# Altium schematic symbol library XRA1203IG24TR-F.SchLib: 1 symbol
Pins are listed as number, name and electrical type; pins without a type are passive.

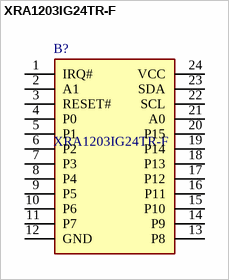
[diagram p0: symbol XRA1203IG24TR-F]

## XRA1203IG24TR-F
designator B?
Interface - I/O Expanders 16 Bit I2C GPIO Expander; Manufacturer_Name: EXAR; Geometry.Height: 1.2mm; Mouser Part Number: 701-XRA1203IG24TR-F; Mouser Price/Stock: https://www.mouser.com/Search/Refine.aspx?Keyword=701-XRA1203IG24TR-F; Manufacturer_Part_Number: XRA1203IG24TR-F; Datasheet Link: https://componentsearchengine.com/Datasheets/1/XRA1203IG24TR-F.pdf
footprint SOP65P640X120-24N
pins: 1 IRQ#, 2 A1, 3 RESET#, 4 P0, 5 P1, 6 P2, 7 P3, 8 P4, 9 P5, 10 P6, 11 P7, 12 GND, 13 P8, 14 P9, 15 P10, 16 P11, 17 P12, 18 P13, 19 P14, 20 P15, 21 A0, 22 SCL, 23 SDA, 24 VCC